# Altium schematic symbol library 2021-03-26_19-59-11.SchLib: 2 symbols
Pins are listed as number, name and electrical type; pins without a type are passive.

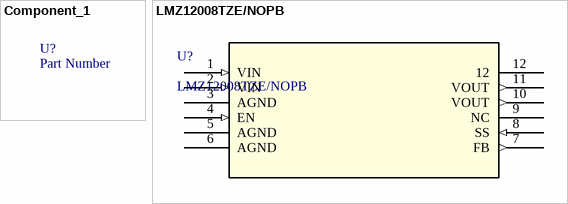
[diagram p0: symbols Component_1 to LMZ12008TZE/NOPB]

## Component_1
designator U?, comment Part Number
XXX - Description - Package; GRAMS Lib Spec: 2.7

## LMZ12008TZE/NOPB
designator U?
8A SIMPLE SWITCHER® Power Module with 20V Maximum Input Voltage; Manufacturer: Texas Instruments; NSC_PackageReference: TZA11A; DatasheetURL: http://www.ti.com/lit/ds/symlink/lmz12008.pdf; basePN: LMZ12008; Manufacturer_Part_Number: LMZ12008TZE/NOPB; Vendor: Texas Instruments; Copyright: Copyright (C) 2018 Accelerated Designs. All rights reserved; RefDes: RefDes; Type: DEV
footprint TZA11A
pins: 1 VIN (in), 2 VIN (in), 3 AGND (power), 4 EN (in), 5 AGND (power), 6 AGND (power), 7 FB (out), 8 SS (in), 9 NC, 10 VOUT (out), 11 VOUT (out), 12